# EAGLE library part JS202011 (library work)
DPDT Slide Switch
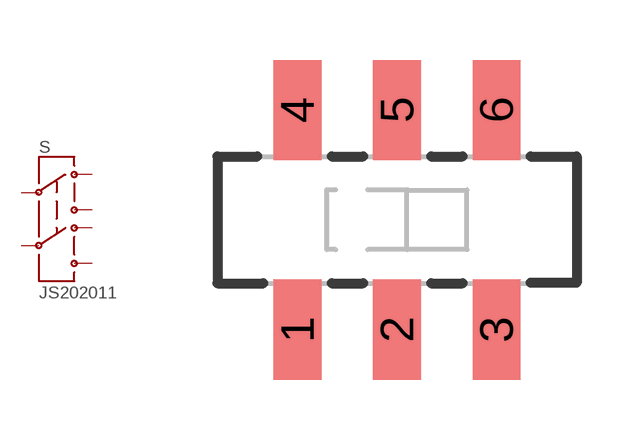
[diagram p100: symbol with the pads of JS202011; footprint JS202011]

Designator prefix S

## JS202011  [JS202011]
1  1
2  2
3  3
4  4
5  5
6  6

## Footprint JS202011 (pad centres in mm)
smd 1.194 x 2.502: 1 -2.489,-2.75; 2 0,-2.75; 3 2.489,-2.75; 4 -2.489,2.75; 5 0,2.75; 6 2.489,2.75